# Altium integrated library Lattice CPLD ispXPLD 5000MX.IntLib: 156 symbols (part 42 of 46)
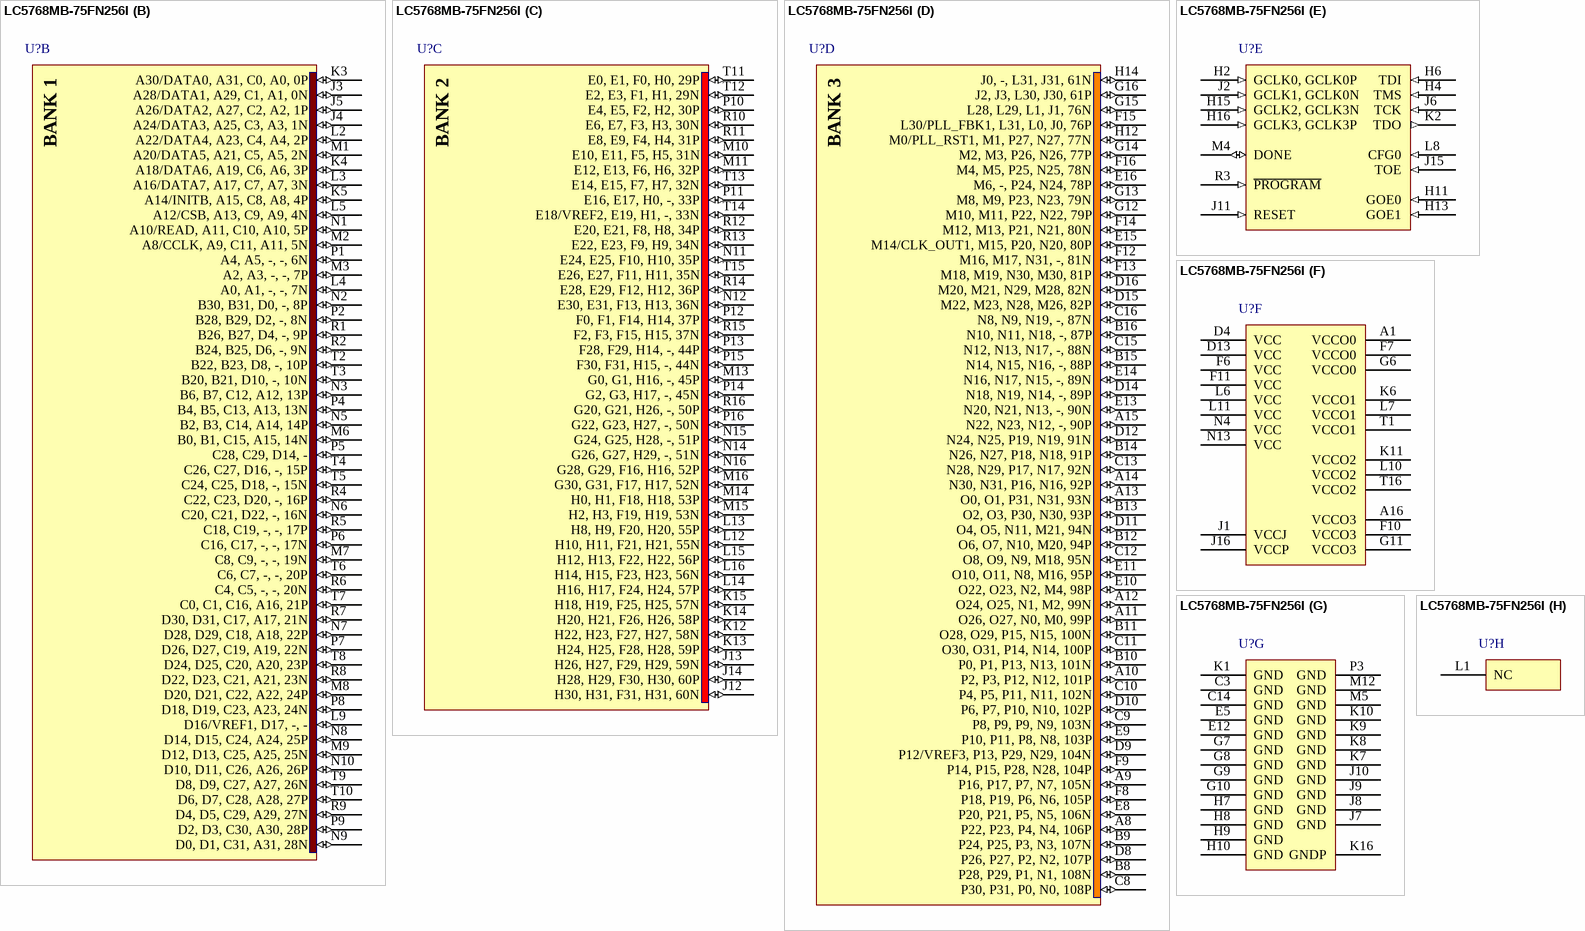
[diagram p223: symbol LC5768MB-75FN256I]

## LC5768MB-75FN256I
designator U?
ispXPLD 5768M eXpanded PLD: 2.5 V, 193 User I/Os, 256-Ball fpBGA, Speed 7.5 ns, Industrial Grade, Pb-Free; Published: 6-Oct-2005; LatestRevisionDate: 30-Mar-2007; LatestRevisionNote: Banks placed in parts.; DatasheetVersion: ver12.2, Mar-2006; PackageVersion: ver01.2 Feb-2007; PackageReference: fpBGA256; Publisher: Altium Limited; PackageDescription: 256-Ball Fine Pitch Ball Grid Array (fpBGA256); Code_IPC: BGA100P16X16-256; ComponentLink1Description: Manufacturer Link; ComponentLink1URL: http://www.latticesemi.com/products/cpld/xpld/index.cfm; ComponentLink2Description: Datasheet; ComponentLink2URL: http://www.latticesemi.com/lit/docs/datasheets/cpld/5kmx.pdf
footprint fpBGA256 (BGA, 256-Leads, Body 17x17mm, Pitch 1mm)
3D model ispXPLD5768MB-fpBGA256 (256-Ball Fine Pitch Ball Grid Array (fpBGA256))
part A pins: A2 S30, S31, S15, -, 125N (io) "General purpose I/O.", A3 Q8, Q9, Q22, S22, 114P (io) "General purpose I/O.", A4 Q12, Q13, Q2, S2, 113P (io) "General purpose I/O.", A5 Q14/VREF0, Q15, Q3, S3, 113N (io) "Dual-purpose pin that is general I/O or Defines I/O bank reference voltage.", A6 Q16, Q17, Q24, S24, 112P (io) "General purpose I/O.", A7 Q28, Q29, Q30, S30, 109P (io) "General purpose I/O.", B1 S18, S19, Q17, S17, 128N (io) "General purpose I/O.", B2 S28, S29, S14, -, 125P (io) "General purpose I/O.", B3 Q4, Q5, Q20, S20, 115P (io) "General purpose I/O.", B4 Q6, Q7, Q21, S21, 115N (io) "General purpose I/O.", B5 Q10, Q11, Q23, S23, 114N (io) "General purpose I/O.", B6 Q22, Q23, Q27, S27, 111N (io) "General purpose I/O.", B7 Q30, Q31, Q31, S31, 109N (io) "General purpose I/O.", C1 S16, S17, Q16, S16, 128P (io) "General purpose I/O.", C2 S12, S13, Q14, S14, 129P (io) "General purpose I/O.", C4 S22, S23, S11, T18, 127N (io) "General purpose I/O.", C5 Q2, Q3, Q19, S19, 116N (io) "General purpose I/O.", C6 Q0, Q1, Q18, S18, 116P (io) "General purpose I/O.", C7 Q24, Q25, Q28, S28, 110P (io) "General purpose I/O.", D1 T22, T23, S1, -, 135N (io) "General purpose I/O.", D2 S8, S9, Q12, S12, 130P (io) "General purpose I/O.", D3 S14, S15, Q15, S15, 129N (io) "General purpose I/O.", D5 R30, R31, Q1, S1, 117N (io) "General purpose I/O.", D6 R28, R29, Q0, S0, 117P (io) "General purpose I/O.", D7 Q26, Q27, Q29, S29, 110N (io) "General purpose I/O.", E1 T20, T21, S0, -, 135P (io) "General purpose I/O.", E2 T14, T15, Q11, S11, 137N (io) "General purpose I/O.", E3 S10, S11, Q13, S13, 130N (io) "General purpose I/O.", E4 S20, S21, S10, T16, 127P (io) "General purpose I/O.", E6 Q18, Q19, Q25, S25, 112N (io) "General purpose I/O.", E7 Q20, Q21, Q26, S26, 111P (io) "General purpose I/O.", F1 T10, T11, Q9, S9, 138N (io) "General purpose I/O.", F2 T12/CLK_OUT0, T13, Q10, S10, 137P (io) "Dual-purpose pin that is general I/O or Optional clock output from PLL0.", F3 T6, T7, Q7, S7, 139N (io) "General purpose I/O.", F4 T18, T19, S31, -, 136N (io) "General purpose I/O.", F5 T16, T17, S30, -, 136P (io) "General purpose I/O.", G1 T8, T9, Q8, S8, 138P (io) "General purpose I/O.", G2 W2, W3, U1, W1, 156N (io) "General purpose I/O.", G3 U30, U31, U31, W31, 141N (io) "General purpose I/O.", G4 T0/PLL_RST0, T1, Q4, S4, 140P (io) "Dual-purpose pin that is general I/O or Optional input resets M divider in PLL0.", G5 T4, T5, Q6, S6, 139P (io) "General purpose I/O.", H1 W0, W1, U0, W0, 156P (io) "General purpose I/O.", H3 U28/PLL_FBK0, U29, U30, W30, 141P (io) "Dual-purpose pin that is general I/O or Optional feeback for PLL0.", H5 T2, T3, Q5, S5, 140N (io) "General purpose I/O."
part B pins: J3 A28/DATA1, A29, C1, A1, 0N (io) "Dual-purpose pin that is general I/O or sysCONFIG data pin.", J4 A24/DATA3, A25, C3, A3, 1N (io) "Dual-purpose pin that is general I/O or sysCONFIG data pin.", J5 A26/DATA2, A27, C2, A2, 1P (io) "Dual-purpose pin that is general I/O or sysCONFIG data pin.", K3 A30/DATA0, A31, C0, A0, 0P (io) "Dual-purpose pin that is general I/O or sysCONFIG data pin.", K4 A18/DATA6, A19, C6, A6, 3P (io) "Dual-purpose pin that is general I/O or sysCONFIG data pin.", K5 A14/INITB, A15, C8, A8, 4P (io) "Dual-purpose pin that is general I/O or Indicates status of configuration.", L2 A22/DATA4, A23, C4, A4, 2P (io) "Dual-purpose pin that is general I/O or sysCONFIG data pin.", L3 A16/DATA7, A17, C7, A7, 3N (io) "Dual-purpose pin that is general I/O or sysCONFIG data pin.", L4 A0, A1, -, -, 7N (io) "General purpose I/O.", L5 A12/CSB, A13, C9, A9, 4N (io) "General purpose I/O.", L9 D16/VREF1, D17, -, - (io) "Dual-purpose pin that is general I/O or Defines I/O bank reference voltage.", M1 A20/DATA5, A21, C5, A5, 2N (io) "Dual-purpose pin that is general I/O or sysCONFIG data pin.", M2 A8/CCLK, A9, C11, A11, 5N (io) "General purpose I/O.", M3 A2, A3, -, -, 7P (io) "General purpose I/O.", M6 B0, B1, C15, A15, 14N (io) "General purpose I/O.", M7 C8, C9, -, -, 19N (io) "General purpose I/O.", M8 D20, D21, C22, A22, 24P (io) "General purpose I/O.", M9 D12, D13, C25, A25, 25N (io) "General purpose I/O.", N1 A10/READ, A11, C10, A10, 5P (io) "Dual-purpose pin that is general I/O or Drive high to perform reads from sysCONFIG interface.", N2 B30, B31, D0, -, 8P (io) "General purpose I/O.", N3 B6, B7, C12, A12, 13P (io) "General purpose I/O.", N5 B2, B3, C14, A14, 14P (io) "General purpose I/O.", N6 C20, C21, D22, -, 16N (io) "General purpose I/O.", N7 D28, D29, C18, A18, 22P (io) "General purpose I/O.", N8 D14, D15, C24, A24, 25P (io) "General purpose I/O.", N9 D0, D1, C31, A31, 28N (io) "General purpose I/O.", N10 D10, D11, C26, A26, 26P (io) "General purpose I/O.", P1 A4, A5, -, -, 6N (io) "General purpose I/O.", P2 B28, B29, D2, -, 8N (io) "General purpose I/O.", P4 B4, B5, C13, A13, 13N (io) "General purpose I/O.", P5 C28, C29, D14, - (io) "General purpose I/O.", P6 C16, C17, -, -, 17N (io) "General purpose I/O.", P7 D26, D27, C19, A19, 22N (io) "General purpose I/O.", P8 D18, D19, C23, A23, 24N (io) "General purpose I/O.", P9 D2, D3, C30, A30, 28P (io) "General purpose I/O.", R1 B26, B27, D4, -, 9P (io) "General purpose I/O.", R2 B24, B25, D6, -, 9N (io) "General purpose I/O.", R4 C22, C23, D20, -, 16P (io) "General purpose I/O.", R5 C18, C19, -, -, 17P (io) "General purpose I/O.", R6 C4, C5, -, -, 20N (io) "General purpose I/O.", R7 D30, D31, C17, A17, 21N (io) "General purpose I/O.", R8 D22, D23, C21, A21, 23N (io) "General purpose I/O.", R9 D4, D5, C29, A29, 27N (io) "General purpose I/O.", T2 B22, B23, D8, -, 10P (io) "General purpose I/O.", T3 B20, B21, D10, -, 10N (io) "General purpose I/O.", T4 C26, C27, D16, -, 15P (io) "General purpose I/O.", T5 C24, C25, D18, -, 15N (io) "General purpose I/O.", T6 C6, C7, -, -, 20P (io) "General purpose I/O.", T7 C0, C1, C16, A16, 21P (io) "General purpose I/O.", T8 D24, D25, C20, A20, 23P (io) "General purpose I/O.", T9 D8, D9, C27, A27, 26N (io) "General purpose I/O.", T10 D6, D7, C28, A28, 27P (io) "General purpose I/O."
part C pins: J12 H30, H31, F31, H31, 60N (io) "General purpose I/O.", J13 H26, H27, F29, H29, 59N (io) "General purpose I/O.", J14 H28, H29, F30, H30, 60P (io) "General purpose I/O.", K12 H22, H23, F27, H27, 58N (io) "General purpose I/O.", K13 H24, H25, F28, H28, 59P (io) "General purpose I/O.", K14 H20, H21, F26, H26, 58P (io) "General purpose I/O.", K15 H18, H19, F25, H25, 57N (io) "General purpose I/O.", L12 H10, H11, F21, H21, 55N (io) "General purpose I/O.", L13 H8, H9, F20, H20, 55P (io) "General purpose I/O.", L14 H16, H17, F24, H24, 57P (io) "General purpose I/O.", L15 H12, H13, F22, H22, 56P (io) "General purpose I/O.", L16 H14, H15, F23, H23, 56N (io) "General purpose I/O.", M10 E10, E11, F5, H5, 31N (io) "General purpose I/O.", M11 E12, E13, F6, H6, 32P (io) "General purpose I/O.", M13 G0, G1, H16, -, 45P (io) "General purpose I/O.", M14 H0, H1, F18, H18, 53P (io) "General purpose I/O.", M15 H2, H3, F19, H19, 53N (io) "General purpose I/O.", M16 G30, G31, F17, H17, 52N (io) "General purpose I/O.", N11 E24, E25, F10, H10, 35P (io) "General purpose I/O.", N12 E30, E31, F13, H13, 36N (io) "General purpose I/O.", N14 G26, G27, H29, -, 51N (io) "General purpose I/O.", N15 G24, G25, H28, -, 51P (io) "General purpose I/O.", N16 G28, G29, F16, H16, 52P (io) "General purpose I/O.", P10 E4, E5, F2, H2, 30P (io) "General purpose I/O.", P11 E16, E17, H0, -, 33P (io) "General purpose I/O.", P12 F0, F1, F14, H14, 37P (io) "General purpose I/O.", P13 F28, F29, H14, -, 44P (io) "General purpose I/O.", P14 G2, G3, H17, -, 45N (io) "General purpose I/O.", P15 F30, F31, H15, -, 44N (io) "General purpose I/O.", P16 G22, G23, H27, -, 50N (io) "General purpose I/O.", R10 E6, E7, F3, H3, 30N (io) "General purpose I/O.", R11 E8, E9, F4, H4, 31P (io) "General purpose I/O.", R12 E20, E21, F8, H8, 34P (io) "General purpose I/O.", R13 E22, E23, F9, H9, 34N (io) "General purpose I/O.", R14 E28, E29, F12, H12, 36P (io) "General purpose I/O.", R15 F2, F3, F15, H15, 37N (io) "General purpose I/O.", R16 G20, G21, H26, -, 50P (io) "General purpose I/O.", T11 E0, E1, F0, H0, 29P (io) "General purpose I/O.", T12 E2, E3, F1, H1, 29N (io) "General purpose I/O.", T13 E14, E15, F7, H7, 32N (io) "General purpose I/O.", T14 E18/VREF2, E19, H1, -, 33N (io) "Dual-purpose pin that is general I/O or Defines I/O bank reference voltage.", T15 E26, E27, F11, H11, 35N (io) "General purpose I/O."
part D pins: A8 P22, P23, P4, N4, 106P (io) "General purpose I/O.", A9 P16, P17, P7, N7, 105N (io) "General purpose I/O.", A10 P2, P3, P12, N12, 101P (io) "General purpose I/O.", A11 O26, O27, N0, M0, 99P (io) "General purpose I/O.", A12 O24, O25, N1, M2, 99N (io) "General purpose I/O.", A13 O0, O1, P31, N31, 93N (io) "General purpose I/O.", A14 N30, N31, P16, N16, 92P (io) "General purpose I/O.", A15 N22, N23, N12, -, 90P (io) "General purpose I/O.", B8 P28, P29, P1, N1, 108N (io) "General purpose I/O.", B9 P24, P25, P3, N3, 107N (io) "General purpose I/O.", B10 P0, P1, P13, N13, 101N (io) "General purpose I/O.", B11 O28, O29, P15, N15, 100N (io) "General purpose I/O.", B12 O6, O7, N10, M20, 94P (io) "General purpose I/O.", B13 O2, O3, P30, N30, 93P (io) "General purpose I/O.", B14 N26, N27, P18, N18, 91P (io) "General purpose I/O.", B15 N14, N15, N16, -, 88P (io) "General purpose I/O.", B16 N10, N11, N18, -, 87P (io) "General purpose I/O.", C8 P30, P31, P0, N0, 108P (io) "General purpose I/O.", C9 P8, P9, P9, N9, 103N (io) "General purpose I/O.", C10 P4, P5, P11, N11, 102N (io) "General purpose I/O.", C11 O30, O31, P14, N14, 100P (io) "General purpose I/O.", C12 O8, O9, N9, M18, 95N (io) "General purpose I/O.", C13 N28, N29, P17, N17, 92N (io) "General purpose I/O.", C15 N12, N13, N17, -, 88N (io) "General purpose I/O.", C16 N8, N9, N19, -, 87N (io) "General purpose I/O.", D8 P26, P27, P2, N2, 107P (io) "General purpose I/O.", D9 P12/VREF3, P13, P29, N29, 104N (io) "Dual-purpose pin that is general I/O or Defines I/O bank reference voltage.", D10 P6, P7, P10, N10, 102P (io) "General purpose I/O.", D11 O4, O5, N11, M21, 94N (io) "General purpose I/O.", D12 N24, N25, P19, N19, 91N (io) "General purpose I/O.", D14 N18, N19, N14, -, 89P (io) "General purpose I/O.", D15 M22, M23, N28, M26, 82P (io) "General purpose I/O.", D16 M20, M21, N29, M28, 82N (io) "General purpose I/O.", E8 P20, P21, P5, N5, 106N (io) "General purpose I/O.", E9 P10, P11, P8, N8, 103P (io) "General purpose I/O.", E10 O22, O23, N2, M4, 98P (io) "General purpose I/O.", E11 O10, O11, N8, M16, 95P (io) "General purpose I/O.", E13 N20, N21, N13, -, 90N (io) "General purpose I/O.", E14 N16, N17, N15, -, 89N (io) "General purpose I/O.", E15 M14/CLK_OUT1, M15, P20, N20, 80P (io) "Dual-purpose pin that is general I/O or Optional clock output from PLL1.", E16 M6, -, P24, N24, 78P (io) "General purpose I/O.", F8 P18, P19, P6, N6, 105P (io) "General purpose I/O.", F9 P14, P15, P28, N28, 104P (io) "General purpose I/O.", F12 M16, M17, N31, -, 81N (io) "General purpose I/O.", F13 M18, M19, N30, M30, 81P (io) "General purpose I/O.", F14 M12, M13, P21, N21, 80N (io) "General purpose I/O.", F15 L30/PLL_FBK1, L31, L0, J0, 76P (io) "Dual-purpose pin that is general I/O or Optional feeback for PLL1.", F16 M4, M5, P25, N25, 78N (io) "General purpose I/O.", G12 M10, M11, P22, N22, 79P (io) "General purpose I/O.", G13 M8, M9, P23, N23, 79N (io) "General purpose I/O.", G14 M2, M3, P26, N26, 77P (io) "General purpose I/O.", G15 L28, L29, L1, J1, 76N (io) "General purpose I/O.", G16 J2, J3, L30, J30, 61P (io) "General purpose I/O.", H12 M0/PLL_RST1, M1, P27, N27, 77N (io) "Dual-purpose pin that is general I/O or Optional input resets M divider in PLL1.", H14 J0, -, L31, J31, 61N (io) "General purpose I/O."
part E pins: H2 GCLK0, GCLK0P (in) "Global clock/clock enable input.", H4 TMS (in) "Test Mode Select Input to control 1149.1 state machine.", H6 TDI (in) "Test Data Input. Loads data into device using 1149.1 state machine.", H11 GOE0 (in) "Global output enable input.", H13 GOE1 (in) "Global output enable input.", H15 GCLK2, GCLK3N (in) "Global clock/clock enable input.", H16 GCLK3, GCLK3P (in) "Global clock/clock enable input.", J2 GCLK1, GCLK0N (in) "Global clock/clock enable input.", J6 TCK (in) "Test Clock Input for 1149.1 state machine.", J11 RESET (in) "Resets all registers.", J15 TOE (in) "Test Output Enable. Tristates all I/O pins when driven low.", K2 TDO (out) "Test Data Output. Shifts data out of device using 1149.1.", L8 CFG0 (in) "Clock for sysCONFIG interface. Reads & writes occur on rising edge of clock.", M4 DONE (io) "Indicates configuration status.", R3 ~{PROGRAM} (in) "Controls SRAM programming. Hold high for normal operation. Toggle low to reload SRAM from E2 memory."
part F pins: A1 VCCO0 (power) "Power supply for I/O bank.", A16 VCCO3 (power) "Power supply for I/O bank.", D4 VCC (power) "Power supply for core logic.", D13 VCC (power) "Power supply for core logic.", F6 VCC (power) "Power supply for core logic.", F7 VCCO0 (power) "Power supply for I/O bank.", F10 VCCO3 (power) "Power supply for I/O bank.", F11 VCC (power) "Power supply for core logic.", G6 VCCO0 (power) "Power supply for I/O bank.", G11 VCCO3 (power) "Power supply for I/O bank.", J1 VCCJ (power) "Power supply for IEEE1149.1 interface.", J16 VCCP (power) "Power Supply for PLL.", K6 VCCO1 (power) "Power supply for I/O bank.", K11 VCCO2 (power) "Power supply for I/O bank.", L6 VCC (power) "Power supply for core logic.", L7 VCCO1 (power) "Power supply for I/O bank.", L10 VCCO2 (power) "Power supply for I/O bank.", L11 VCC (power) "Power supply for core logic.", N4 VCC (power) "Power supply for core logic.", N13 VCC (power) "Power supply for core logic.", T1 VCCO1 (power) "Power supply for I/O bank.", T16 VCCO2 (power) "Power supply for I/O bank."
part G pins: C3 GND (power) "Ground.", C14 GND (power) "Ground.", E5 GND (power) "Ground.", E12 GND (power) "Ground.", G7 GND (power) "Ground.", G8 GND (power) "Ground.", G9 GND (power) "Ground.", G10 GND (power) "Ground.", H7 GND (power) "Ground.", H8 GND (power) "Ground.", H9 GND (power) "Ground.", H10 GND (power) "Ground.", J7 GND (power) "Ground.", J8 GND (power) "Ground.", J9 GND (power) "Ground.", J10 GND (power) "Ground.", K1 GND (power) "Ground.", K7 GND (power) "Ground.", K8 GND (power) "Ground.", K9 GND (power) "Ground.", K10 GND (power) "Ground.", K16 GNDP (power) "Ground for PLL.", M5 GND (power) "Ground.", M12 GND (power) "Ground.", P3 GND (power) "Ground."
part H pins: L1 NC "Not Connected."
part A text: BANK 0
part B text: BANK 1
part C text: BANK 2
part D text: BANK 3

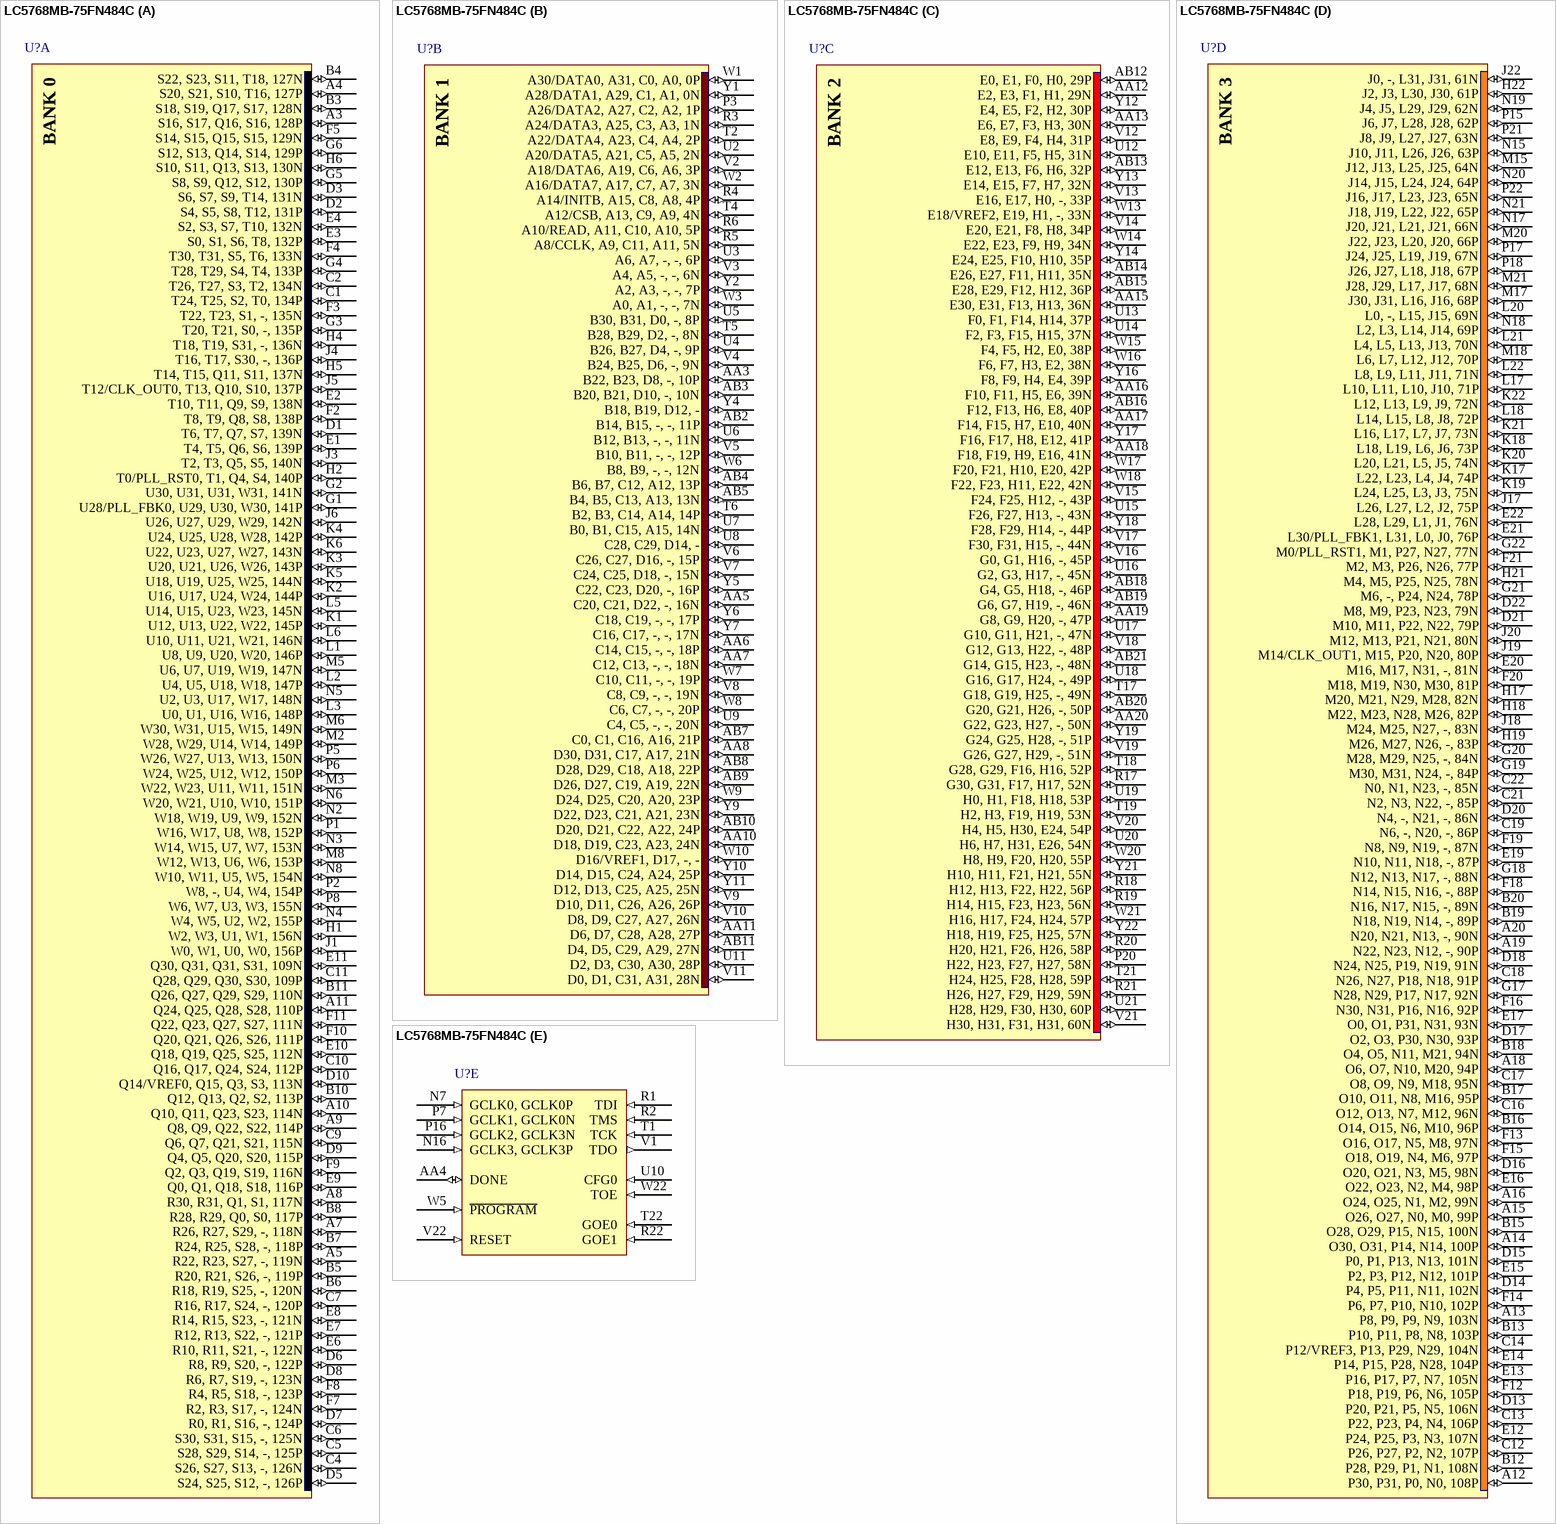
[diagram p94: symbol LC5768MB-75FN484C]

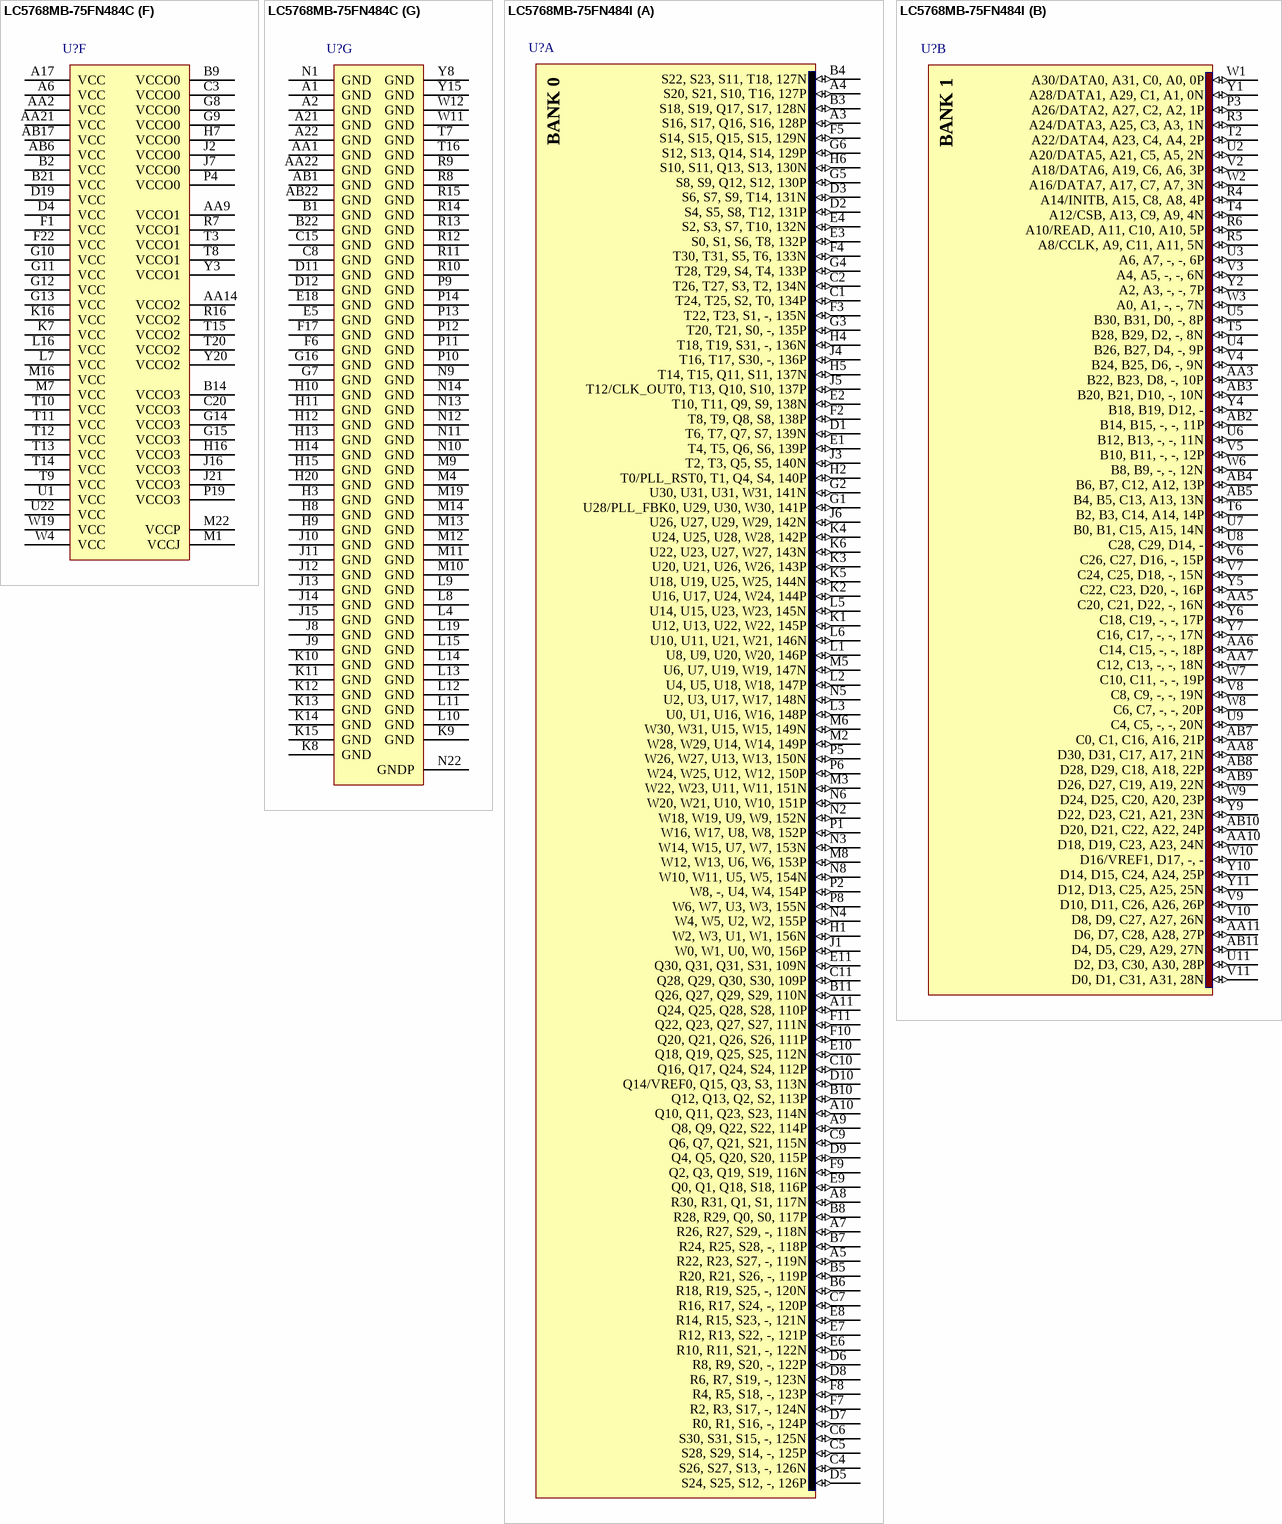
[diagram p95: symbols LC5768MB-75FN484C to LC5768MB-75FN484I]

## LC5768MB-75FN484C
designator U?
ispXPLD 5768M eXpanded PLD: 2.5 V, 317 User I/Os, 484-Ball fpBGA, Speed 7.5 ns, Commercial Grade, Pb-Free; Published: 6-Oct-2005; LatestRevisionDate: 30-Mar-2007; LatestRevisionNote: Banks placed in parts.; DatasheetVersion: ver12.2, Mar-2006; PackageVersion: ver01.2 Feb-2007; PackageReference: fpBGA484; Publisher: Altium Limited; PackageDescription: 484-Ball Fine Pitch Ball Grid Array (fpBGA484); Code_IPC: BGA100P22X22-484; ComponentLink1Description: Manufacturer Link; ComponentLink1URL: http://www.latticesemi.com/products/cpld/xpld/index.cfm; ComponentLink2Description: Datasheet; ComponentLink2URL: http://www.latticesemi.com/lit/docs/datasheets/cpld/5kmx.pdf
footprint fpBGA484 (BGA, 484-Leads, Body 23x23mm, Pitch 1mm)
3D model ispXPLD5768MB-fpBGA484 (484-Ball Fine Pitch Ball Grid Array (fpBGA484))
part A pins: A3 S16, S17, Q16, S16, 128P (io) "General purpose I/O.", A4 S20, S21, S10, T16, 127P (io) "General purpose I/O.", A5 R22, R23, S27, -, 119N (io) "General purpose I/O.", A7 R26, R27, S29, -, 118N (io) "General purpose I/O.", A8 R30, R31, Q1, S1, 117N (io) "General purpose I/O.", A9 Q8, Q9, Q22, S22, 114P (io) "General purpose I/O.", A10 Q10, Q11, Q23, S23, 114N (io) "General purpose I/O.", A11 Q24, Q25, Q28, S28, 110P (io) "General purpose I/O.", B3 S18, S19, Q17, S17, 128N (io) "General purpose I/O.", B4 S22, S23, S11, T18, 127N (io) "General purpose I/O.", B5 R20, R21, S26, -, 119P (io) "General purpose I/O.", B6 R18, R19, S25, -, 120N (io) "General purpose I/O.", B7 R24, R25, S28, -, 118P (io) "General purpose I/O.", B8 R28, R29, Q0, S0, 117P (io) "General purpose I/O.", B10 Q12, Q13, Q2, S2, 113P (io) "General purpose I/O.", B11 Q26, Q27, Q29, S29, 110N (io) "General purpose I/O.", C1 T24, T25, S2, T0, 134P (io) "General purpose I/O.", C2 T26, T27, S3, T2, 134N (io) "General purpose I/O.", C4 S26, S27, S13, -, 126N (io) "General purpose I/O.", C5 S28, S29, S14, -, 125P (io) "General purpose I/O.", C6 S30, S31, S15, -, 125N (io) "General purpose I/O.", C7 R16, R17, S24, -, 120P (io) "General purpose I/O.", C9 Q6, Q7, Q21, S21, 115N (io) "General purpose I/O.", C10 Q16, Q17, Q24, S24, 112P (io) "General purpose I/O.", C11 Q28, Q29, Q30, S30, 109P (io) "General purpose I/O.", D1 T6, T7, Q7, S7, 139N (io) "General purpose I/O.", D2 S4, S5, S8, T12, 131P (io) "General purpose I/O.", D3 S6, S7, S9, T14, 131N (io) "General purpose I/O.", D5 S24, S25, S12, -, 126P (io) "General purpose I/O.", D6 R8, R9, S20, -, 122P (io) "General purpose I/O.", D7 R0, R1, S16, -, 124P (io) "General purpose I/O.", D8 R6, R7, S19, -, 123N (io) "General purpose I/O.", D9 Q4, Q5, Q20, S20, 115P (io) "General purpose I/O.", D10 Q14/VREF0, Q15, Q3, S3, 113N (io) "Dual-purpose pin that is general I/O or Defines I/O bank reference voltage.", E1 T4, T5, Q6, S6, 139P (io) "General purpose I/O.", E2 T10, T11, Q9, S9, 138N (io) "General purpose I/O.", E3 S0, S1, S6, T8, 132P (io) "General purpose I/O.", E4 S2, S3, S7, T10, 132N (io) "General purpose I/O.", E6 R10, R11, S21, -, 122N (io) "General purpose I/O.", E7 R12, R13, S22, -, 121P (io) "General purpose I/O.", E8 R14, R15, S23, -, 121N (io) "General purpose I/O.", E9 Q0, Q1, Q18, S18, 116P (io) "General purpose I/O.", E10 Q18, Q19, Q25, S25, 112N (io) "General purpose I/O.", E11 Q30, Q31, Q31, S31, 109N (io) "General purpose I/O.", F2 T8, T9, Q8, S8, 138P (io) "General purpose I/O.", F3 T22, T23, S1, -, 135N (io) "General purpose I/O.", F4 T30, T31, S5, T6, 133N (io) "General purpose I/O.", F5 S14, S15, Q15, S15, 129N (io) "General purpose I/O.", F7 R2, R3, S17, -, 124N (io) "General purpose I/O.", F8 R4, R5, S18, -, 123P (io) "General purpose I/O.", F9 Q2, Q3, Q19, S19, 116N (io) "General purpose I/O.", F10 Q20, Q21, Q26, S26, 111P (io) "General purpose I/O.", F11 Q22, Q23, Q27, S27, 111N (io) "General purpose I/O.", G1 U28/PLL_FBK0, U29, U30, W30, 141P (io) "Dual-purpose pin that is general I/O or Optional feeback for PLL0.", G2 U30, U31, U31, W31, 141N (io) "General purpose I/O.", G3 T20, T21, S0, -, 135P (io) "General purpose I/O.", G4 T28, T29, S4, T4, 133P (io) "General purpose I/O.", G5 S8, S9, Q12, S12, 130P (io) "General purpose I/O.", G6 S12, S13, Q14, S14, 129P (io) "General purpose I/O.", H1 W2, W3, U1, W1, 156N (io) "General purpose I/O.", H2 T0/PLL_RST0, T1, Q4, S4, 140P (io) "Dual-purpose pin that is general I/O or Optional input resets M divider in PLL0.", H4 T18, T19, S31, -, 136N (io) "General purpose I/O.", H5 T14, T15, Q11, S11, 137N (io) "General purpose I/O.", H6 S10, S11, Q13, S13, 130N (io) "General purpose I/O.", J1 W0, W1, U0, W0, 156P (io) "General purpose I/O.", J3 T2, T3, Q5, S5, 140N (io) "General purpose I/O.", J4 T16, T17, S30, -, 136P (io) "General purpose I/O.", J5 T12/CLK_OUT0, T13, Q10, S10, 137P (io) "Dual-purpose pin that is general I/O or Optional clock output from PLL0.", J6 U26, U27, U29, W29, 142N (io) "General purpose I/O.", K1 U12, U13, U22, W22, 145P (io) "General purpose I/O.", K2 U16, U17, U24, W24, 144P (io) "General purpose I/O.", K3 U20, U21, U26, W26, 143P (io) "General purpose I/O.", K4 U24, U25, U28, W28, 142P (io) "General purpose I/O.", K5 U18, U19, U25, W25, 144N (io) "General purpose I/O.", K6 U22, U23, U27, W27, 143N (io) "General purpose I/O.", L1 U8, U9, U20, W20, 146P (io) "General purpose I/O.", L2 U4, U5, U18, W18, 147P (io) "General purpose I/O.", L3 U0, U1, U16, W16, 148P (io) "General purpose I/O.", L5 U14, U15, U23, W23, 145N (io) "General purpose I/O.", L6 U10, U11, U21, W21, 146N (io) "General purpose I/O.", M2 W28, W29, U14, W14, 149P (io) "General purpose I/O.", M3 W22, W23, U11, W11, 151N (io) "General purpose I/O.", M5 U6, U7, U19, W19, 147N (io) "General purpose I/O.", M6 W30, W31, U15, W15, 149N (io) "General purpose I/O.", M8 W12, W13, U6, W6, 153P (io) "General purpose I/O.", N2 W18, W19, U9, W9, 152N (io) "General purpose I/O.", N3 W14, W15, U7, W7, 153N (io) "General purpose I/O.", N4 W4, W5, U2, W2, 155P (io) "General purpose I/O.", N5 U2, U3, U17, W17, 148N (io) "General purpose I/O.", N6 W20, W21, U10, W10, 151P (io) "General purpose I/O.", N8 W10, W11, U5, W5, 154N (io) "General purpose I/O.", P1 W16, W17, U8, W8, 152P (io) "General purpose I/O.", P2 W8, -, U4, W4, 154P (io) "General purpose I/O.", P5 W26, W27, U13, W13, 150N (io) "General purpose I/O.", P6 W24, W25, U12, W12, 150P (io) "General purpose I/O.", P8 W6, W7, U3, W3, 155N (io) "General purpose I/O."
part B pins: AA3 B22, B23, D8, -, 10P (io) "General purpose I/O.", AA5 C20, C21, D22, -, 16N (io) "General purpose I/O.", AA6 C14, C15, -, -, 18P (io) "General purpose I/O.", AA7 C12, C13, -, -, 18N (io) "General purpose I/O.", AA8 D30, D31, C17, A17, 21N (io) "General purpose I/O.", AA10 D18, D19, C23, A23, 24N (io) "General purpose I/O.", AA11 D6, D7, C28, A28, 27P (io) "General purpose I/O.", AB2 B14, B15, -, -, 11P (io) "General purpose I/O.", AB3 B20, B21, D10, -, 10N (io) "General purpose I/O.", AB4 B6, B7, C12, A12, 13P (io) "General purpose I/O.", AB5 B4, B5, C13, A13, 13N (io) "General purpose I/O.", AB7 C0, C1, C16, A16, 21P (io) "General purpose I/O.", AB8 D28, D29, C18, A18, 22P (io) "General purpose I/O.", AB9 D26, D27, C19, A19, 22N (io) "General purpose I/O.", AB10 D20, D21, C22, A22, 24P (io) "General purpose I/O.", AB11 D4, D5, C29, A29, 27N (io) "General purpose I/O.", P3 A26/DATA2, A27, C2, A2, 1P (io) "Dual-purpose pin that is general I/O or sysCONFIG data pin.", R3 A24/DATA3, A25, C3, A3, 1N (io) "Dual-purpose pin that is general I/O or sysCONFIG data pin.", R4 A14/INITB, A15, C8, A8, 4P (io) "Dual-purpose pin that is general I/O or Indicates status of configuration.", R5 A8/CCLK, A9, C11, A11, 5N (io) "General purpose I/O.", R6 A10/READ, A11, C10, A10, 5P (io) "Dual-purpose pin that is general I/O or Drive high to perform reads from sysCONFIG interface.", T2 A22/DATA4, A23, C4, A4, 2P (io) "Dual-purpose pin that is general I/O or sysCONFIG data pin.", T4 A12/CSB, A13, C9, A9, 4N (io) "General purpose I/O.", T5 B28, B29, D2, -, 8N (io) "General purpose I/O.", T6 B2, B3, C14, A14, 14P (io) "General purpose I/O.", U2 A20/DATA5, A21, C5, A5, 2N (io) "Dual-purpose pin that is general I/O or sysCONFIG data pin.", U3 A6, A7, -, -, 6P (io) "General purpose I/O.", U4 B26, B27, D4, -, 9P (io) "General purpose I/O.", U5 B30, B31, D0, -, 8P (io) "General purpose I/O.", U6 B12, B13, -, -, 11N (io) "General purpose I/O.", U7 B0, B1, C15, A15, 14N (io) "General purpose I/O.", U8 C28, C29, D14, - (io) "General purpose I/O.", U9 C4, C5, -, -, 20N (io) "General purpose I/O.", U11 D2, D3, C30, A30, 28P (io) "General purpose I/O.", V2 A18/DATA6, A19, C6, A6, 3P (io) "Dual-purpose pin that is general I/O or sysCONFIG data pin.", V3 A4, A5, -, -, 6N (io) "General purpose I/O.", V4 B24, B25, D6, -, 9N (io) "General purpose I/O.", V5 B10, B11, -, -, 12P (io) "General purpose I/O.", V6 C26, C27, D16, -, 15P (io) "General purpose I/O.", V7 C24, C25, D18, -, 15N (io) "General purpose I/O.", V8 C8, C9, -, -, 19N (io) "General purpose I/O.", V9 D10, D11, C26, A26, 26P (io) "General purpose I/O.", V10 D8, D9, C27, A27, 26N (io) "General purpose I/O.", V11 D0, D1, C31, A31, 28N (io) "General purpose I/O.", W1 A30/DATA0, A31, C0, A0, 0P (io) "Dual-purpose pin that is general I/O or sysCONFIG data pin.", W2 A16/DATA7, A17, C7, A7, 3N (io) "Dual-purpose pin that is general I/O or sysCONFIG data pin.", W3 A0, A1, -, -, 7N (io) "General purpose I/O.", W6 B8, B9, -, -, 12N (io) "General purpose I/O.", W7 C10, C11, -, -, 19P (io) "General purpose I/O.", W8 C6, C7, -, -, 20P (io) "General purpose I/O.", W9 D24, D25, C20, A20, 23P (io) "General purpose I/O.", W10 D16/VREF1, D17, -, - (io) "Dual-purpose pin that is general I/O or Defines I/O bank reference voltage.", Y1 A28/DATA1, A29, C1, A1, 0N (io) "Dual-purpose pin that is general I/O or sysCONFIG data pin.", Y2 A2, A3, -, -, 7P (io) "General purpose I/O.", Y4 B18, B19, D12, - (io) "General purpose I/O.", Y5 C22, C23, D20, -, 16P (io) "General purpose I/O.", Y6 C18, C19, -, -, 17P (io) "General purpose I/O.", Y7 C16, C17, -, -, 17N (io) "General purpose I/O.", Y9 D22, D23, C21, A21, 23N (io) "General purpose I/O.", Y10 D14, D15, C24, A24, 25P (io) "General purpose I/O.", Y11 D12, D13, C25, A25, 25N (io) "General purpose I/O."
part C pins: AA12 E2, E3, F1, H1, 29N (io) "General purpose I/O.", AA13 E6, E7, F3, H3, 30N (io) "General purpose I/O.", AA15 E30, E31, F13, H13, 36N (io) "General purpose I/O.", AA16 F10, F11, H5, E6, 39N (io) "General purpose I/O.", AA17 F14, F15, H7, E10, 40N (io) "General purpose I/O.", AA18 F18, F19, H9, E16, 41N (io) "General purpose I/O.", AA19 G8, G9, H20, -, 47P (io) "General purpose I/O.", AA20 G22, G23, H27, -, 50N (io) "General purpose I/O.", AB12 E0, E1, F0, H0, 29P (io) "General purpose I/O.", AB13 E12, E13, F6, H6, 32P (io) "General purpose I/O.", AB14 E26, E27, F11, H11, 35N (io) "General purpose I/O.", AB15 E28, E29, F12, H12, 36P (io) "General purpose I/O.", AB16 F12, F13, H6, E8, 40P (io) "General purpose I/O.", AB18 G4, G5, H18, -, 46P (io) "General purpose I/O.", AB19 G6, G7, H19, -, 46N (io) "General purpose I/O.", AB20 G20, G21, H26, -, 50P (io) "General purpose I/O.", AB21 G14, G15, H23, -, 48N (io) "General purpose I/O.", P20 H22, H23, F27, H27, 58N (io) "General purpose I/O.", R17 G30, G31, F17, H17, 52N (io) "General purpose I/O.", R18 H12, H13, F22, H22, 56P (io) "General purpose I/O.", R19 H14, H15, F23, H23, 56N (io) "General purpose I/O.", R20 H20, H21, F26, H26, 58P (io) "General purpose I/O.", R21 H26, H27, F29, H29, 59N (io) "General purpose I/O.", T17 G18, G19, H25, -, 49N (io) "General purpose I/O.", T18 G28, G29, F16, H16, 52P (io) "General purpose I/O.", T19 H2, H3, F19, H19, 53N (io) "General purpose I/O.", T21 H24, H25, F28, H28, 59P (io) "General purpose I/O.", U12 E10, E11, F5, H5, 31N (io) "General purpose I/O.", U13 F0, F1, F14, H14, 37P (io) "General purpose I/O.", U14 F2, F3, F15, H15, 37N (io) "General purpose I/O.", U15 F26, F27, H13, -, 43N (io) "General purpose I/O.", U16 G2, G3, H17, -, 45N (io) "General purpose I/O.", U17 G10, G11, H21, -, 47N (io) "General purpose I/O.", U18 G16, G17, H24, -, 49P (io) "General purpose I/O.", U19 H0, H1, F18, H18, 53P (io) "General purpose I/O.", U20 H6, H7, H31, E26, 54N (io) "General purpose I/O.", U21 H28, H29, F30, H30, 60P (io) "General purpose I/O.", V12 E8, E9, F4, H4, 31P (io) "General purpose I/O.", V13 E16, E17, H0, -, 33P (io) "General purpose I/O.", V14 E20, E21, F8, H8, 34P (io) "General purpose I/O.", V15 F24, F25, H12, -, 43P (io) "General purpose I/O.", V16 G0, G1, H16, -, 45P (io) "General purpose I/O.", V17 F30, F31, H15, -, 44N (io) "General purpose I/O.", V18 G12, G13, H22, -, 48P (io) "General purpose I/O.", V19 G26, G27, H29, -, 51N (io) "General purpose I/O.", V20 H4, H5, H30, E24, 54P (io) "General purpose I/O.", V21 H30, H31, F31, H31, 60N (io) "General purpose I/O.", W13 E18/VREF2, E19, H1, -, 33N (io) "Dual-purpose pin that is general I/O or Defines I/O bank reference voltage.", W14 E22, E23, F9, H9, 34N (io) "General purpose I/O.", W15 F4, F5, H2, E0, 38P (io) "General purpose I/O.", W16 F6, F7, H3, E2, 38N (io) "General purpose I/O.", W17 F20, F21, H10, E20, 42P (io) "General purpose I/O.", W18 F22, F23, H11, E22, 42N (io) "General purpose I/O.", W20 H8, H9, F20, H20, 55P (io) "General purpose I/O.", W21 H16, H17, F24, H24, 57P (io) "General purpose I/O.", Y12 E4, E5, F2, H2, 30P (io) "General purpose I/O.", Y13 E14, E15, F7, H7, 32N (io) "General purpose I/O.", Y14 E24, E25, F10, H10, 35P (io) "General purpose I/O.", Y16 F8, F9, H4, E4, 39P (io) "General purpose I/O.", Y17 F16, F17, H8, E12, 41P (io) "General purpose I/O.", Y18 F28, F29, H14, -, 44P (io) "General purpose I/O.", Y19 G24, G25, H28, -, 51P (io) "General purpose I/O.", Y21 H10, H11, F21, H21, 55N (io) "General purpose I/O.", Y22 H18, H19, F25, H25, 57N (io) "General purpose I/O."
part D pins: A12 P30, P31, P0, N0, 108P (io) "General purpose I/O.", A13 P8, P9, P9, N9, 103N (io) "General purpose I/O.", A14 O30, O31, P14, N14, 100P (io) "General purpose I/O.", A15 O26, O27, N0, M0, 99P (io) "General purpose I/O.", A16 O24, O25, N1, M2, 99N (io) "General purpose I/O.", A18 O6, O7, N10, M20, 94P (io) "General purpose I/O.", A19 N22, N23, N12, -, 90P (io) "General purpose I/O.", A20 N20, N21, N13, -, 90N (io) "General purpose I/O.", B12 P28, P29, P1, N1, 108N (io) "General purpose I/O.", B13 P10, P11, P8, N8, 103P (io) "General purpose I/O.", B15 O28, O29, P15, N15, 100N (io) "General purpose I/O.", B16 O14, O15, N6, M10, 96P (io) "General purpose I/O.", B17 O10, O11, N8, M16, 95P (io) "General purpose I/O.", B18 O4, O5, N11, M21, 94N (io) "General purpose I/O.", B19 N18, N19, N14, -, 89P (io) "General purpose I/O.", B20 N16, N17, N15, -, 89N (io) "General purpose I/O.", C12 P26, P27, P2, N2, 107P (io) "General purpose I/O.", C13 P22, P23, P4, N4, 106P (io) "General purpose I/O.", C14 P12/VREF3, P13, P29, N29, 104N (io) "Dual-purpose pin that is general I/O or Defines I/O bank reference voltage.", C16 O12, O13, N7, M12, 96N (io) "General purpose I/O.", C17 O8, O9, N9, M18, 95N (io) "General purpose I/O.", C18 N26, N27, P18, N18, 91P (io) "General purpose I/O.", C19 N6, -, N20, -, 86P (io) "General purpose I/O.", C21 N2, N3, N22, -, 85P (io) "General purpose I/O.", C22 N0, N1, N23, -, 85N (io) "General purpose I/O.", D13 P20, P21, P5, N5, 106N (io) "General purpose I/O.", D14 P4, P5, P11, N11, 102N (io) "General purpose I/O.", D15 P0, P1, P13, N13, 101N (io) "General purpose I/O.", D16 O20, O21, N3, M5, 98N (io) "General purpose I/O.", D17 O2, O3, P30, N30, 93P (io) "General purpose I/O.", D18 N24, N25, P19, N19, 91N (io) "General purpose I/O.", D20 N4, -, N21, -, 86N (io) "General purpose I/O.", D21 M10, M11, P22, N22, 79P (io) "General purpose I/O.", D22 M8, M9, P23, N23, 79N (io) "General purpose I/O.", E12 P24, P25, P3, N3, 107N (io) "General purpose I/O.", E13 P16, P17, P7, N7, 105N (io) "General purpose I/O.", E14 P14, P15, P28, N28, 104P (io) "General purpose I/O.", E15 P2, P3, P12, N12, 101P (io) "General purpose I/O.", E16 O22, O23, N2, M4, 98P (io) "General purpose I/O.", E17 O0, O1, P31, N31, 93N (io) "General purpose I/O.", E19 N10, N11, N18, -, 87P (io) "General purpose I/O.", E20 M16, M17, N31, -, 81N (io) "General purpose I/O.", E21 L30/PLL_FBK1, L31, L0, J0, 76P (io) "Dual-purpose pin that is general I/O or Optional feeback for PLL1.", E22 L28, L29, L1, J1, 76N (io) "General purpose I/O.", F12 P18, P19, P6, N6, 105P (io) "General purpose I/O.", F13 O16, O17, N5, M8, 97N (io) "General purpose I/O.", F14 P6, P7, P10, N10, 102P (io) "General purpose I/O.", F15 O18, O19, N4, M6, 97P (io) "General purpose I/O.", F16 N30, N31, P16, N16, 92P (io) "General purpose I/O.", F18 N14, N15, N16, -, 88P (io) "General purpose I/O.", F19 N8, N9, N19, -, 87N (io) "General purpose I/O.", F20 M18, M19, N30, M30, 81P (io) "General purpose I/O.", F21 M2, M3, P26, N26, 77P (io) "General purpose I/O.", G17 N28, N29, P17, N17, 92N (io) "General purpose I/O.", G18 N12, N13, N17, -, 88N (io) "General purpose I/O.", G19 M30, M31, N24, -, 84P (io) "General purpose I/O.", G20 M28, M29, N25, -, 84N (io) "General purpose I/O.", G21 M6, -, P24, N24, 78P (io) "General purpose I/O.", G22 M0/PLL_RST1, M1, P27, N27, 77N (io) "Dual-purpose pin that is general I/O or Optional input resets M divider in PLL1.", H17 M20, M21, N29, M28, 82N (io) "General purpose I/O.", H18 M22, M23, N28, M26, 82P (io) "General purpose I/O.", H19 M26, M27, N26, -, 83P (io) "General purpose I/O.", H21 M4, M5, P25, N25, 78N (io) "General purpose I/O.", H22 J2, J3, L30, J30, 61P (io) "General purpose I/O.", J17 L26, L27, L2, J2, 75P (io) "General purpose I/O.", J18 M24, M25, N27, -, 83N (io) "General purpose I/O.", J19 M14/CLK_OUT1, M15, P20, N20, 80P (io) "Dual-purpose pin that is general I/O or Optional clock output from PLL1.", J20 M12, M13, P21, N21, 80N (io) "General purpose I/O.", J22 J0, -, L31, J31, 61N (io) "General purpose I/O.", K17 L22, L23, L4, J4, 74P (io) "General purpose I/O.", K18 L18, L19, L6, J6, 73P (io) "General purpose I/O.", K19 L24, L25, L3, J3, 75N (io) "General purpose I/O.", K20 L20, L21, L5, J5, 74N (io) "General purpose I/O.", K21 L16, L17, L7, J7, 73N (io) "General purpose I/O.", K22 L12, L13, L9, J9, 72N (io) "General purpose I/O.", L17 L10, L11, L10, J10, 71P (io) "General purpose I/O.", L18 L14, L15, L8, J8, 72P (io) "General purpose I/O.", L20 L0, -, L15, J15, 69N (io) "General purpose I/O.", L21 L4, L5, L13, J13, 70N (io) "General purpose I/O.", L22 L8, L9, L11, J11, 71N (io) "General purpose I/O.", M15 J12, J13, L25, J25, 64N (io) "General purpose I/O.", M17 J30, J31, L16, J16, 68P (io) "General purpose I/O.", M18 L6, L7, L12, J12, 70P (io) "General purpose I/O.", M20 J22, J23, L20, J20, 66P (io) "General purpose I/O.", M21 J28, J29, L17, J17, 68N (io) "General purpose I/O.", N15 J10, J11, L26, J26, 63P (io) "General purpose I/O.", N17 J20, J21, L21, J21, 66N (io) "General purpose I/O.", N18 L2, L3, L14, J14, 69P (io) "General purpose I/O.", N19 J4, J5, L29, J29, 62N (io) "General purpose I/O.", N20 J14, J15, L24, J24, 64P (io) "General purpose I/O.", N21 J18, J19, L22, J22, 65P (io) "General purpose I/O.", P15 J6, J7, L28, J28, 62P (io) "General purpose I/O.", P17 J24, J25, L19, J19, 67N (io) "General purpose I/O.", P18 J26, J27, L18, J18, 67P (io) "General purpose I/O.", P21 J8, J9, L27, J27, 63N (io) "General purpose I/O.", P22 J16, J17, L23, J23, 65N (io) "General purpose I/O."
part E pins: AA4 DONE (io) "Indicates configuration status.", N7 GCLK0, GCLK0P (in) "Global clock/clock enable input.", N16 GCLK3, GCLK3P (in) "Global clock/clock enable input.", P7 GCLK1, GCLK0N (in) "Global clock/clock enable input.", P16 GCLK2, GCLK3N (in) "Global clock/clock enable input.", R1 TDI (in) "Test Data Input. Loads data into device using 1149.1 state machine.", R2 TMS (in) "Test Mode Select Input to control 1149.1 state machine.", R22 GOE1 (in) "Global output enable input.", T1 TCK (in) "Test Clock Input for 1149.1 state machine.", T22 GOE0 (in) "Global output enable input.", U10 CFG0 (in) "Clock for sysCONFIG interface. Reads & writes occur on rising edge of clock.", V1 TDO (out) "Test Data Output. Shifts data out of device using 1149.1.", V22 RESET (in) "Resets all registers.", W5 ~{PROGRAM} (in) "Controls SRAM programming. Hold high for normal operation. Toggle low to reload SRAM from E2 memory.", W22 TOE (in) "Test Output Enable. Tristates all I/O pins when driven low."
part F pins: A6 VCC (power) "Power supply for core logic.", A17 VCC (power) "Power supply for core logic.", AA2 VCC (power) "Power supply for core logic.", AA9 VCCO1 (power) "Power supply for I/O bank.", AA14 VCCO2 (power) "Power supply for I/O bank.", AA21 VCC (power) "Power supply for core logic.", AB6 VCC (power) "Power supply for core logic.", AB17 VCC (power) "Power supply for core logic.", B2 VCC (power) "Power supply for core logic.", B9 VCCO0 (power) "Power supply for I/O bank.", B14 VCCO3 (power) "Power supply for I/O bank.", B21 VCC (power) "Power supply for core logic.", C3 VCCO0 (power) "Power supply for I/O bank.", C20 VCCO3 (power) "Power supply for I/O bank.", D4 VCC (power) "Power supply for core logic.", D19 VCC (power) "Power supply for core logic.", F1 VCC (power) "Power supply for core logic.", F22 VCC (power) "Power supply for core logic.", G8 VCCO0 (power) "Power supply for I/O bank.", G9 VCCO0 (power) "Power supply for I/O bank.", G10 VCC (power) "Power supply for core logic.", G11 VCC (power) "Power supply for core logic.", G12 VCC (power) "Power supply for core logic.", G13 VCC (power) "Power supply for core logic.", G14 VCCO3 (power) "Power supply for I/O bank.", G15 VCCO3 (power) "Power supply for I/O bank.", H7 VCCO0 (power) "Power supply for I/O bank.", H16 VCCO3 (power) "Power supply for I/O bank.", J2 VCCO0 (power) "Power supply for I/O bank.", J7 VCCO0 (power) "Power supply for I/O bank.", J16 VCCO3 (power) "Power supply for I/O bank.", J21 VCCO3 (power) "Power supply for I/O bank.", K7 VCC (power) "Power supply for core logic.", K16 VCC (power) "Power supply for core logic.", L7 VCC (power) "Power supply for core logic.", L16 VCC (power) "Power supply for core logic.", M1 VCCJ (power) "Power supply for IEEE1149.1 interface.", M7 VCC (power) "Power supply for core logic.", M16 VCC (power) "Power supply for core logic.", M22 VCCP (power) "Power Supply for PLL.", P4 VCCO0 (power) "Power supply for I/O bank.", P19 VCCO3 (power) "Power supply for I/O bank.", R7 VCCO1 (power) "Power supply for I/O bank.", R16 VCCO2 (power) "Power supply for I/O bank.", T3 VCCO1 (power) "Power supply for I/O bank.", T8 VCCO1 (power) "Power supply for I/O bank.", T9 VCC (power) "Power supply for core logic.", T10 VCC (power) "Power supply for core logic.", T11 VCC (power) "Power supply for core logic.", T12 VCC (power) "Power supply for core logic.", T13 VCC (power) "Power supply for core logic.", T14 VCC (power) "Power supply for core logic.", T15 VCCO2 (power) "Power supply for I/O bank.", T20 VCCO2 (power) "Power supply for I/O bank.", U1 VCC (power) "Power supply for core logic.", U22 VCC (power) "Power supply for core logic.", W4 VCC (power) "Power supply for core logic.", W19 VCC (power) "Power supply for core logic.", Y3 VCCO1 (power) "Power supply for I/O bank.", Y20 VCCO2 (power) "Power supply for I/O bank."
part G pins: A1 GND (power) "Ground.", A2 GND (power) "Ground.", A21 GND (power) "Ground.", A22 GND (power) "Ground.", AA1 GND (power) "Ground.", AA22 GND (power) "Ground.", AB1 GND (power) "Ground.", AB22 GND (power) "Ground.", B1 GND (power) "Ground.", B22 GND (power) "Ground.", C8 GND (power) "Ground.", C15 GND (power) "Ground.", D11 GND (power) "Ground.", D12 GND (power) "Ground.", E5 GND (power) "Ground.", E18 GND (power) "Ground.", F6 GND (power) "Ground.", F17 GND (power) "Ground.", G7 GND (power) "Ground.", G16 GND (power) "Ground.", H3 GND (power) "Ground.", H8 GND (power) "Ground.", H9 GND (power) "Ground.", H10 GND (power) "Ground.", H11 GND (power) "Ground.", H12 GND (power) "Ground.", H13 GND (power) "Ground.", H14 GND (power) "Ground.", H15 GND (power) "Ground.", H20 GND (power) "Ground.", J8 GND (power) "Ground.", J9 GND (power) "Ground.", J10 GND (power) "Ground.", J11 GND (power) "Ground.", J12 GND (power) "Ground.", J13 GND (power) "Ground.", J14 GND (power) "Ground.", J15 GND (power) "Ground.", K8 GND (power) "Ground.", K9 GND (power) "Ground.", K10 GND (power) "Ground.", K11 GND (power) "Ground.", K12 GND (power) "Ground.", K13 GND (power) "Ground.", K14 GND (power) "Ground.", K15 GND (power) "Ground.", L4 GND (power) "Ground.", L8 GND (power) "Ground.", L9 GND (power) "Ground.", L10 GND (power) "Ground.", L11 GND (power) "Ground.", L12 GND (power) "Ground.", L13 GND (power) "Ground.", L14 GND (power) "Ground.", L15 GND (power) "Ground.", L19 GND (power) "Ground.", M4 GND (power) "Ground.", M9 GND (power) "Ground.", M10 GND (power) "Ground.", M11 GND (power) "Ground.", M12 GND (power) "Ground.", M13 GND (power) "Ground.", M14 GND (power) "Ground.", M19 GND (power) "Ground.", N1 GND (power) "Ground.", N9 GND (power) "Ground.", N10 GND (power) "Ground.", N11 GND (power) "Ground.", N12 GND (power) "Ground.", N13 GND (power) "Ground.", N14 GND (power) "Ground.", N22 GNDP (power) "Ground for PLL.", P9 GND (power) "Ground.", P10 GND (power) "Ground.", P11 GND (power) "Ground.", P12 GND (power) "Ground.", P13 GND (power) "Ground.", P14 GND (power) "Ground.", R8 GND (power) "Ground.", R9 GND (power) "Ground.", R10 GND (power) "Ground.", R11 GND (power) "Ground.", R12 GND (power) "Ground.", R13 GND (power) "Ground.", R14 GND (power) "Ground.", R15 GND (power) "Ground.", T7 GND (power) "Ground.", T16 GND (power) "Ground.", W11 GND (power) "Ground.", W12 GND (power) "Ground.", Y8 GND (power) "Ground.", Y15 GND (power) "Ground."
part A text: BANK 0
part B text: BANK 1
part C text: BANK 2
part D text: BANK 3

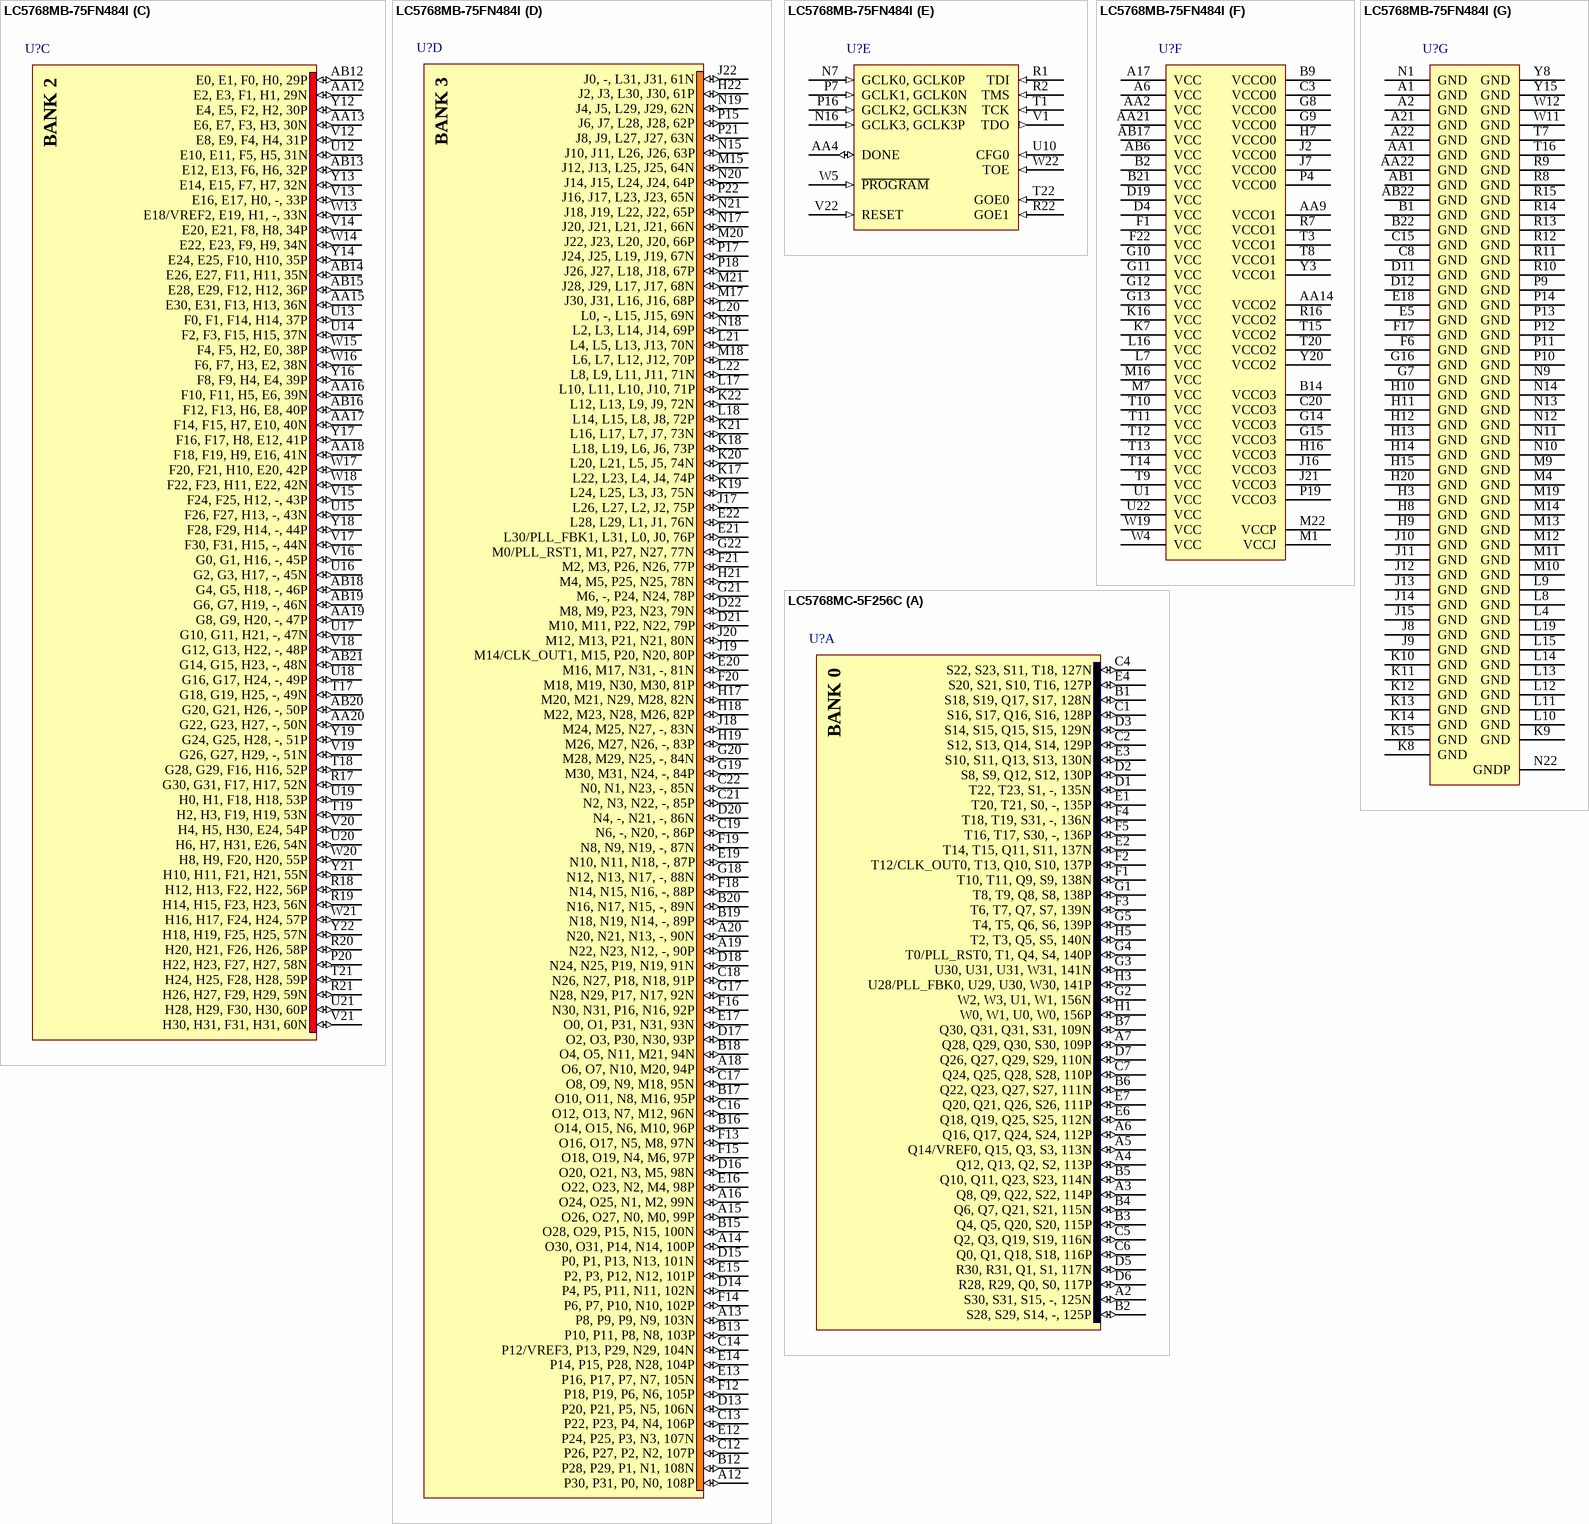
[diagram p96: symbols LC5768MB-75FN484I to LC5768MC-5F256C]